# Altium schematic symbol library Toygether_Schlib.SchLib: 47 symbols
Pins are listed as number, name and electrical type; pins without a type are passive.

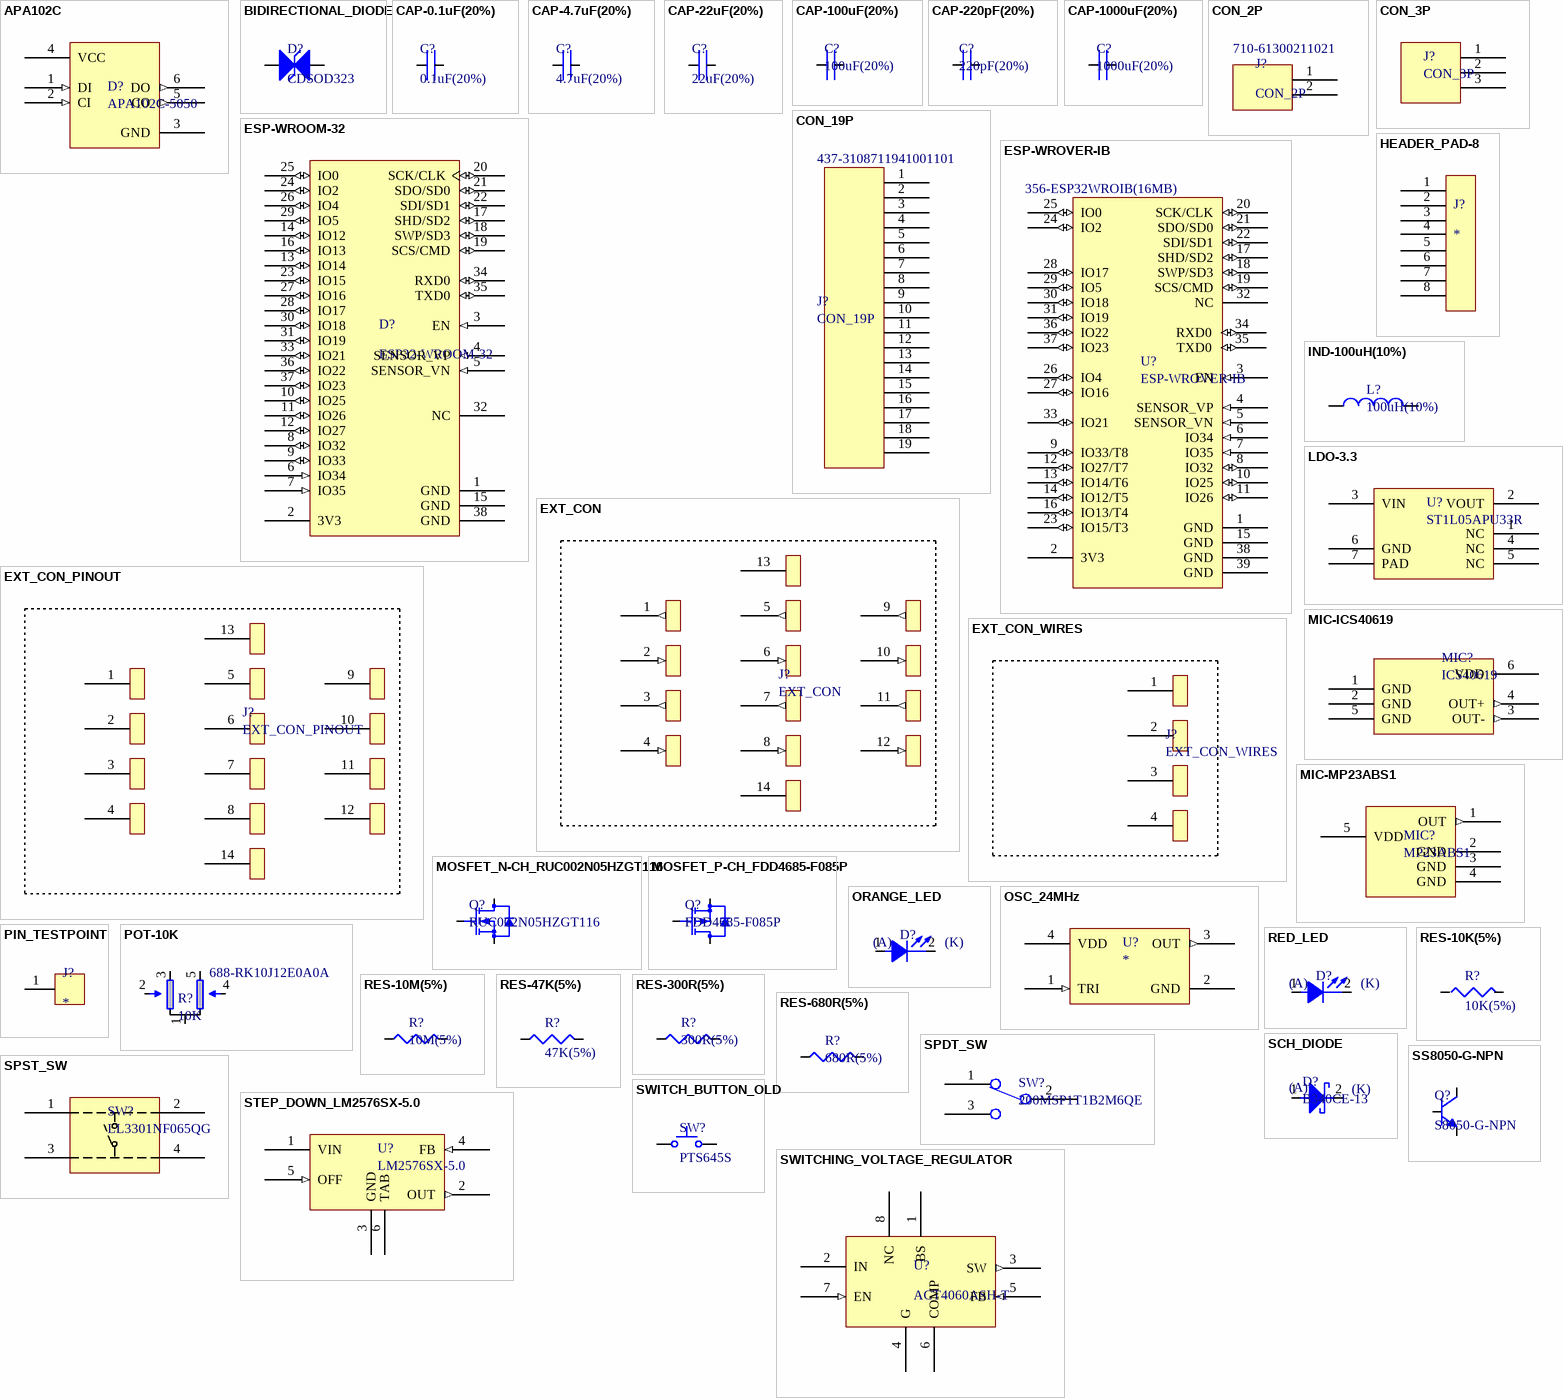
[diagram p0: symbols APA102C to SWITCHING_VOLTAGE_REGULATOR]

## APA102C
designator D?, comment APA102C-5050
Supplier 1: Mouser; Supplier Part Number 1: 474-COM-14863
footprint APA102C-5050
pins: 1 DI (in), 2 CI (in), 3 GND (power), 4 VCC (power), 5 CO (out), 6 DO (out)

## BIDIRECTIONAL_DIODE
designator D?, comment CDSOD323
CDSOD323-T05LC - ESD Suppressors / TVS Diodes Bidirectional Ultra Low Cap; Supplier 1: Mouser; Supplier Part Number 1: 652-CDSOD323-T05LC
footprint SOD-323-SCHOTTKY_DIODE-30V/0.5A (Molded Diode, 2-Leads, Body 2,50x1,30mm, IPC Medium Density)
pins: 1 C, 2 C

## CAP-0.1uF(20%)
designator C?, comment 0.1uF(20%)
C1608X8R1E104M080AA; Supplier 1: Mouser; Supplier Part Number 1: 810-C1608X8R1E104M0A
footprint CAPC0603 (Chip Capacitor, 2-Leads, Body 1,60x0,80mm, IPC Medium Density)
pins: 1, 2

## CAP-4.7uF(20%)
designator C?, comment 4.7uF(20%)
C1608JB1V475M080AC; Supplier 1: Mouser; Supplier Part Number 1: 810-C1608JB1V475M08C
footprint CAPC0603 (Chip Capacitor, 2-Leads, Body 1,60x0,80mm, IPC Medium Density)
pins: 1, 2

## CAP-22uF(20%)
designator C?, comment 22uF(20%)
F380J226MMAAH1; Supplier 1: Mouser; Supplier Part Number 1: 581-F380J226MMAAH1
footprint CAPC0603 (Chip Capacitor, 2-Leads, Body 1,60x0,80mm, IPC Medium Density)
pins: 1, 2

## CAP-100uF(20%)
designator C?, comment 100uF(20%)
GRM31CR61A107ME05L; Supplier 1: Mouser; Supplier Part Number 1: 581-TPSF107M016R0200
footprint CAPC2312 (Chip Capacitor, 2-Leads, Body 6.00x3.25mm, IPC Medium Density)
pins: 1, 2

## CAP-220pF(20%)
designator C?, comment 220pF(20%)
C1608CH2A221J080AA; Supplier 1: Mouser; Supplier Part Number 1: 810-C1608CH2A221J08A
footprint CAPC0603 (Chip Capacitor, 2-Leads, Body 1,60x0,80mm, IPC Medium Density)
pins: 1, 2

## CAP-1000uF(20%)
designator C?, comment 1000uF(20%)
F720J108MMC; Supplier 1: Mouser; Supplier Part Number 1: 647-F720J108MMC
footprint CAPC2824 (Chip Capacitor, 2-Leads, Body 7.20x6.00mm, IPC Medium Density)
pins: 1, 2

## CON_2P
designator J?  Supplier Part Number 1: 710-61300211021
2 Positions Header, Breakaway Connector 0.100" (2.54mm) Through Hole Tin; Supplier 1: Mouser
footprint CON_2P
pins: 1, 2

## CON_3P
designator J?
3 Positions Header, Breakaway Connector 0.100" (2.54mm) Through Hole Tin
footprint CON_3P
pins: 1, 2, 3

## CON_19P
designator J?  Supplier Part Number 1: 437-3108711941001101
19 Positions Header, Breakaway Connector 0.100" (2.54mm) Through Hole Tin; Supplier 1: Mouser
footprint CON_19P
pins: 1, 2 1, 3 1, 4 1, 5 1, 6 1, 7 1, 8 1, 9 1, 10 1, 11 1, 12 1, 13 1, 14 1, 15 1, 16 1, 17 1, 18 1, 19 1

## ESP-WROOM-32
designator D?, comment ESP32-WROOM-32
Supplier 1: Mouser; Supplier Part Number 1: 356-ESP-WROOM-32
footprint OLMX-ESP-WROOM-32 (SMD, 38-Leads, Body 18x25.5mm, Pitch 1.27mm)
pins: 1 GND (power) "Ground", 2 3V3 (power) "Power supply.", 3 EN (in) "Chip-enable signal. Active high.", 4 SENSOR_VP (in) "GPIO36, SENSOR_VP, ADC_H, ADC1_CH0, RTC_GPIO0", 5 SENSOR_VN (in) "GPIO39, SENSOR_VN, ADC1_CH3, ADC_H, RTC_GPIO3", 6 IO34 (in) "GPIO34, ADC1_CH6, RTC_GPIO4", 7 IO35 (in) "GPIO35, ADC1_CH7, RTC_GPIO5", 8 IO32 (io) "GPIO32, XTAL_32K_P (32.768 kHz crystal oscillator input), ADC1_CH4, TOUCH9, RTC_GPIO9", 9 IO33 (io) "GPIO33, XTAL_32K_N (32.768 kHz crystal oscillator output), ADC1_CH5, TOUCH8, RTC_GPIO8", 10 IO25 (io) "GPIO25, DAC_1, ADC2_CH8, RTC_GPIO6, EMAC_RXD0", 11 IO26 (io) "GPIO26, DAC_2, ADC2_CH9, RTC_GPIO7, EMAC_RXD1", 12 IO27 (io) "GPIO27, ADC2_CH7, TOUCH7, RTC_GPIO17, EMAC_RX_DV", 13 IO14 (io) "GPIO14, ADC2_CH6, TOUCH6, RTC_GPIO16, MTMS, HSPICLK, HS2_CLK, SD_CLK, EMAC_TXD2", 14 IO12 (io) "GPIO12, ADC2_CH5, TOUCH5, RTC_GPIO15, MTDI, HSPIQ, HS2_DATA2, SD_DATA2, EMAC_TXD3", 15 GND (power) "Ground", 16 IO13 (io) "GPIO13, ADC2_CH4, TOUCH4, RTC_GPIO14, MTCK, HSPID, HS2_DATA3, SD_DATA3, EMAC_RX_ER", 17 SHD/SD2 (io) "GPIO9, SD_DATA2, SPIHD, HS1_DATA2, U1RXD", 18 SWP/SD3 (io) "GPIO10, SD_DATA3, SPIWP, HS1_DATA3, U1TXD", 19 SCS/CMD (io) "GPIO11, SD_CMD, SPICS0, HS1_CMD, U1RTS", 20 SCK/CLK (io) "GPIO6, SD_CLK, SPICLK, HS1_CLK, U1CTS", 21 SDO/SD0 (io) "GPIO7, SD_DATA0, SPIQ, HS1_DATA0, U2RTS", 22 SDI/SD1 (io) "GPIO8, SD_DATA1, SPID, HS1_DATA1, U2CTS", 23 IO15 (io) "GPIO15, ADC2_CH3, TOUCH3, MTDO, HSPICS0, RTC_GPIO13, HS2_CMD, SD_CMD, EMAC_RXD3", 24 IO2 (io) "GPIO2, ADC2_CH2, TOUCH2, RTC_GPIO12, HSPIWP, HS2_DATA0, SD_DATA0", 25 IO0 (io) "GPIO0, ADC2_CH1, TOUCH1, RTC_GPIO11, CLK_OUT1, EMAC_TX_CLK", 26 IO4 (io) "GPIO4, ADC2_CH0, TOUCH0, RTC_GPIO10, HSPIHD, HS2_DATA1, SD_DATA1, EMAC_TX_ER", 27 IO16 (io) "GPIO16, HS1_DATA4, U2RXD, EMAC_CLK_OUT", 28 IO17 (io) "GPIO17, HS1_DATA5, U2TXD, EMAC_CLK_OUT_180", 29 IO5 (io) "GPIO5, VSPICS0, HS1_DATA6, EMAC_RX_CLK", 30 IO18 (io) "GPIO18, VSPICLK, HS1_DATA7", 31 IO19 (io) "GPIO19, VSPIQ, U0CTS, EMAC_TXD0", 32 NC "Not connected", 33 IO21 (io) "GPIO21, VSPIHD, EMAC_TX_EN", 34 RXD0 (io) "GPIO3, U0RXD, CLK_OUT2", 35 TXD0 (io) "GPIO1, U0TXD, CLK_OUT3, EMAC_RXD2", 36 IO22 (io) "GPIO22, VSPIWP, U0RTS, EMAC_TXD1", 37 IO23 (io) "GPIO23, VSPID, HS1_STROBE", 38 GND (power) "Ground"

## ESP-WROVER-IB
designator U?  Supplier Part Number 1: 356-ESP32WROIB(16MB)
Supplier 1: Mouser
footprint ESP32-WROVER-I (SMD, 38-Leads, Body 18x25.5mm, Pitch 1.27mm)
pins: 1 GND (power) "Ground", 2 3V3 (power) "Power supply.", 3 EN (in) "Chip-enable signal. Active high.", 4 SENSOR_VP (in) "GPIO36, SENSOR_VP, ADC_H, ADC1_CH0, RTC_GPIO0", 5 SENSOR_VN (in) "GPIO39, SENSOR_VN, ADC1_CH3, ADC_H, RTC_GPIO3", 6 IO34 (in) "GPIO34, ADC1_CH6, RTC_GPIO4", 7 IO35 (in) "GPIO35, ADC1_CH7, RTC_GPIO5", 8 IO32 (io) "GPIO32, XTAL_32K_P (32.768 kHz crystal oscillator input), ADC1_CH4, TOUCH9, RTC_GPIO9", 9 IO33/T8 (io) "GPIO33, XTAL_32K_N (32.768 kHz crystal oscillator output), ADC1_CH5, TOUCH8, RTC_GPIO8", 10 IO25 (io) "GPIO25, DAC_1, ADC2_CH8, RTC_GPIO6, EMAC_RXD0", 11 IO26 (io) "GPIO26, DAC_2, ADC2_CH9, RTC_GPIO7, EMAC_RXD1", 12 IO27/T7 (io) "GPIO27, ADC2_CH7, TOUCH7, RTC_GPIO17, EMAC_RX_DV", 13 IO14/T6 (io) "GPIO14, ADC2_CH6, TOUCH6, RTC_GPIO16, MTMS, HSPICLK, HS2_CLK, SD_CLK, EMAC_TXD2", 14 IO12/T5 (io) "GPIO12, ADC2_CH5, TOUCH5, RTC_GPIO15, MTDI, HSPIQ, HS2_DATA2, SD_DATA2, EMAC_TXD3", 15 GND (power) "Ground", 16 IO13/T4 (io) "GPIO13, ADC2_CH4, TOUCH4, RTC_GPIO14, MTCK, HSPID, HS2_DATA3, SD_DATA3, EMAC_RX_ER", 17 SHD/SD2 (io) "GPIO9, SD_DATA2, SPIHD, HS1_DATA2, U1RXD", 18 SWP/SD3 (io) "GPIO10, SD_DATA3, SPIWP, HS1_DATA3, U1TXD", 19 SCS/CMD (io) "GPIO11, SD_CMD, SPICS0, HS1_CMD, U1RTS", 20 SCK/CLK (io) "GPIO6, SD_CLK, SPICLK, HS1_CLK, U1CTS", 21 SDO/SD0 (io) "GPIO7, SD_DATA0, SPIQ, HS1_DATA0, U2RTS", 22 SDI/SD1 (io) "GPIO8, SD_DATA1, SPID, HS1_DATA1, U2CTS", 23 IO15/T3 (io) "GPIO15, ADC2_CH3, TOUCH3, MTDO, HSPICS0, RTC_GPIO13, HS2_CMD, SD_CMD, EMAC_RXD3", 24 IO2 (io) "GPIO2, ADC2_CH2, TOUCH2, RTC_GPIO12, HSPIWP, HS2_DATA0, SD_DATA0", 25 IO0 (io) "GPIO0, ADC2_CH1, TOUCH1, RTC_GPIO11, CLK_OUT1, EMAC_TX_CLK", 26 IO4 (io) "GPIO4, ADC2_CH0, TOUCH0, RTC_GPIO10, HSPIHD, HS2_DATA1, SD_DATA1, EMAC_TX_ER", 27 IO16 (io) "GPIO16, HS1_DATA4, U2RXD, EMAC_CLK_OUT", 28 IO17 (io) "GPIO17, HS1_DATA5, U2TXD, EMAC_CLK_OUT_180", 29 IO5 (io) "GPIO5, VSPICS0, HS1_DATA6, EMAC_RX_CLK", 30 IO18 (io) "GPIO18, VSPICLK, HS1_DATA7", 31 IO19 (io) "GPIO19, VSPIQ, U0CTS, EMAC_TXD0", 32 NC "Not connected", 33 IO21 (io) "GPIO21, VSPIHD, EMAC_TX_EN", 34 RXD0 (io) "GPIO3, U0RXD, CLK_OUT2", 35 TXD0 (io) "GPIO1, U0TXD, CLK_OUT3, EMAC_RXD2", 36 IO22 (io) "GPIO22, VSPIWP, U0RTS, EMAC_TXD1", 37 IO23 (io) "GPIO23, VSPID, HS1_STROBE", 38 GND (power) "Ground", 39 GND (power) "Ground"

## EXT_CON
designator J?
External connector to the LEDs and capacitive touch sensors (on the plush toy)
footprint EXT_CON_14P
pins: 1 (out), 2 (in), 3 (out), 4 (in), 5 (out), 6 (in), 7 (out), 8 (in), 9 (out), 10 (in), 11 (out), 12 (in), 13 (power), 14 (power)

## EXT_CON_PINOUT
designator J?
Pinout for the LEDs and capacitive touch sensors (on the plush toy)
footprint EXT_CON_PINOUT_14P
pins: 1, 2, 3, 4, 5, 6, 7, 8, 9, 10, 11, 12, 13, 14

## EXT_CON_WIRES
designator J?
Pads between pinout board and wires of the plush toy
footprint EXT_CON_WIRES_4P
pins: 1, 2, 3, 4

## HEADER_PAD-8
designator J?
footprint HEADER-PAD-8
pins: 1 9, 2, 3, 4, 5, 6, 7, 8

## IND-100uH(10%)
designator L?, comment 100uH(10%)
SDR1307A-101K; Supplier 1: Mouser; Supplier Part Number 1: 652-SDR1307A-101K
footprint IND1307-100uH (Precision Wire Wound Inductor, 2-Leads, Body 13.00x13.00mm, IPC Medium Density)
pins: 1, 2

## LDO-3.3
designator U?, comment ST1L05APU33R
Low drop linear voltage regulator; Supplier 1: Mouser; Supplier Part Number 1: 511-ST1L05APU33R
footprint LDO-ST1L05 (SON, 6-Leads, Body 3x3mm, Pitch 0.95mm, Thermal Pad 2.4x1.65mm, IPC Low Density)
pins: 1 NC, 2 VOUT (power), 3 VIN (power), 4 NC, 5 NC, 6 GND (power), 7 PAD (power)

## MIC-ICS40619
designator MIC?, comment ICS40619
Differential analog top-port microphone; Supplier 1: Mouser; Supplier Part Number 1: 410-ICS-40619
footprint MIC-ICS40619 (SOTFL, 6-Leads, Body 3.50x3.14mm, Pitch 1.28mm, IPC Medium Density)
pins: 1 GND (power) "Ground", 2 GND (power) "Ground", 3 OUT- (out) "Analog Output Signal−", 4 OUT+ (out) "Analog Output Signal+", 5 GND (power) "Ground", 6 VDD "Power Supply"

## MIC-MP23ABS1
designator MIC?, comment MP23ABS1
Single-ended analog bottom-port microphone
footprint MIC_MP23ABS1 (RHLGA metal cap 5-lead MEMS audio sensor)
pins: 1 OUT (out), 2 GND (power), 3 GND (power), 4 GND (power), 5 VDD (power)

## MOSFET_N-CH_RUC002N05HZGT116
designator Q?, comment RUC002N05HZGT116
RUC002N05HZGT116 (N-CH/50V/2.2R/200mA); Supplier 1: Mouser; Supplier Part Number 1: 755-RUC002N05HZGT116
footprint MOS-N_RUC002N05 (SOT23, 3-Leads, Body 2.90x2.40mm, Pitch 0.95mm, IPC Medium Density)
pins: 1 "Gate", 2 "Source", 3 "Drain"

## MOSFET_P-CH_FDD4685-F085P
designator Q?, comment FDD4685-F085P
FDD4685-F085P(P-CH/40V/35mR/32A); Supplier 1: Mouser; Supplier Part Number 1: 512-FDD4685_F085P
footprint MOS-P_FDD4685 (DPAK, 3-Leads, Body 6.75x6.22mm, Pitch 2.29mm, IPC High Density)
pins: 1 "Gate", 2 "Source", 3 "Drain"

## ORANGE_LED
designator D?, comment SML-D12D1W  (value not drawn)
SML-D12D1WT86_ORANGE-LED; Supplier 1: Mouser; Supplier Part Number 1: 755-SML-D12D1WT86
footprint SML-D12U1WT86 (Molded Diode, 2-Leads, Body 1,60x0,80mm, IPC Medium Density)
pins: 1, 2
text: (A); (K)

## OSC_24MHz
designator U?
Crystal Oscillator for CODEC; Supplier 1: Mouser; Supplier Part Number 1: 520-3225MV-240-BNT
footprint OSC_24MHz (ECS-3225MV SMD Multi Volt Crystal Oscillator)
pins: 1 TRI (in) "Tri-state pin", 2 GND (power), 3 OUT (out), 4 VDD (power)

## PIN_TESTPOINT
designator J?
1 Position Header, Breakaway Connector 0.100" (2.54mm) Through Hole Tin
footprint PIN_TESTPOINT
pins: 1 Testpoint

## POT-10K
designator R?, comment 10K  Supplier Part Number 1: 688-RK10J12E0A0A
RK10J12E0A0A; Supplier 1: Mouser
footprint POT-RK10J12E0A0A
pins: 1, 2, 3, 4, 5

## RED_LED
designator D?, comment SML-D12U1WT86  (value not drawn)
SML-D12U1WT86-2.2V-20mA; Supplier 1: Mouser; Supplier Part Number 1: 755-SML-D12U1WT86
footprint SML-D12U1WT86 (Molded Diode, 2-Leads, Body 1,60x0,80mm, IPC Medium Density)
pins: 1, 2
text: (A); (K)

## RES-10K(5%)
designator R?, comment 10K(5%)
RC0603JR-0710KL; Supplier 1: Mouser; Supplier Part Number 1: 603-RC0603JR-0710KL
footprint RC0603 (Chip Resistor, 2-Leads, Body 1.60x0.80mm, IPC Medium Density)
pins: 1, 2

## RES-10M(5%)
designator R?, comment 10M(5%)
CRCW060310M0DHEAP; Supplier 1: Mouser; Supplier Part Number 1: 71-CRCW060310M0DHEAP
footprint RC0603 (Chip Resistor, 2-Leads, Body 1.60x0.80mm, IPC Medium Density)
pins: 1, 2

## RES-47K(5%)
designator R?, comment 47K(5%)
RC0603JR-0747KL; Supplier 1: Mouser; Supplier Part Number 1: 603-RC0603JR-0747KL
footprint RC0603 (Chip Resistor, 2-Leads, Body 1.60x0.80mm, IPC Medium Density)
pins: 1, 2

## RES-300R(5%)
designator R?, comment 300R(5%)
RC0603JR-07300RL; Supplier 1: Mouser; Supplier Part Number 1: 603-RC0603JR-07300RL
footprint RC0603 (Chip Resistor, 2-Leads, Body 1.60x0.80mm, IPC Medium Density)
pins: 1, 2

## RES-680R(5%)
designator R?, comment 680R(5%)
RC0603JR-07680RL; Supplier 1: Mouser; Supplier Part Number 1: 603-RC0603JR-07680RL
footprint RC0603 (Chip Resistor, 2-Leads, Body 1.60x0.80mm, IPC Medium Density)
pins: 1, 2

## SCH_DIODE
designator D?, comment B340CE-13
Supplier 1: Mouser; Supplier Part Number 1: 621-B340CE-13
footprint SCH_DIODE-B3xxCE (Molded Diode, 2-Leads, Body 6.86x5.91mm, IPC Medium Density)
pins: 1 A, 2 K
text: (A); (K)

## SPDT_SW
designator SW?, comment 200MSP1T1B2M6QE
Supplier 1: Mouser; Supplier Part Number 1: 612-200MSP1T1B2M6QE
footprint SPDT- 200MSP1T1B2M6QE
pins: 1, 2, 3

## SPST_SW
designator SW?, comment LL3301NF065QG
Supplier 1: Mouser; Supplier Part Number 1: 612-LL3301NF065QG
footprint PUSH_BUTTON-LL3301NF065QG
pins: 1, 2, 3, 4

## SS8050-G-NPN
designator Q?, comment S8050-G-NPN
750-SS8050-G-BJT NPN SOT-23-3 TRANSISTOR 1.5A 40V; Supplier 1: Mouser; Supplier Part Number 1: 750-SS8050-G
footprint SOT23 (SOT23, 3-Leads, Body 2,90x2,40mm, Pitch 0,95mm, IPC Medium Density)
pins: 1 BASE, 2 EMITTER, 3 COLLECTOR

## STEP_DOWN_LM2576SX-5.0
designator U?, comment LM2576SX-5.0
LM2576SX-5.0/NOPB step down voltage regulator; Supplier 1: Mouser; Supplier Part Number 1: 926-LM2576SX-5.0NOPB
footprint LM2576SX-STEP_DOWN-5.0
pins: 1 VIN (power) "Supply input pin to collector pin of high-side transistor.", 2 OUT (out) "Emitter pin of the power transistor. This is a switching node. Attached this pin to an inductor and the cathode of the external diode.", 3 GND (power) "Ground pin.", 4 FB (in) "Feedback sense input pin.", 5 OFF (in) "Enable input to the voltage regulator. High = OFF and low = ON.", 6 TAB (power) "Connected to GND. Attached to heatsink for thermal relief for TO-220 package or put a copper plane connected to this pin as a thermal relief for DDPAK package."

## SWITCH_BUTTON_OLD
designator SW?, comment PTS645S
PTS645SL432LFS; Supplier 1: Avnet; Supplier Part Number 1: PTS645SL432LFS
footprint CKCP-PTS645S_V (THD, 4-Leads, Body 6x6mm, Pitch 4.5mm)
pins: 1, 2

## SWITCHING_VOLTAGE_REGULATOR
designator U?, comment ACT4060ASH-T
Supplier 1: Mouser; Supplier Part Number 1: 107-ACT4060ASH-T
footprint SWITCHING_VOLTAGE_REGULATOR
pins: 1 BS "Bootstrap. This pin acts as the positive rail for the high-side switch’s gate driver. Connect a 10nF capacitor between BS and SW.", 2 IN (power) "Input Supply. Bypass this pin to G with a low ESR capacitor.", 3 SW (out) "Switch Output. Connect this pin to the switching end of the inductor.", 4 G (power) "Ground", 5 FB (in) "Feedback Input. The voltage at this pin is regulated to 1.293V. Connect to the resistor divider between output and ground to set output voltage.", 6 COMP "Compensation Pin", 7 EN (in) "Enable Input. When higher than 1.3V, this pin turns the IC on. When lower than 0.7V, this pin turns the IC off. Output voltage is discharged when the IC is off. When left unconnected, EN is pulled up to 4.5V with a 2µA pull-up current.", 8 NC

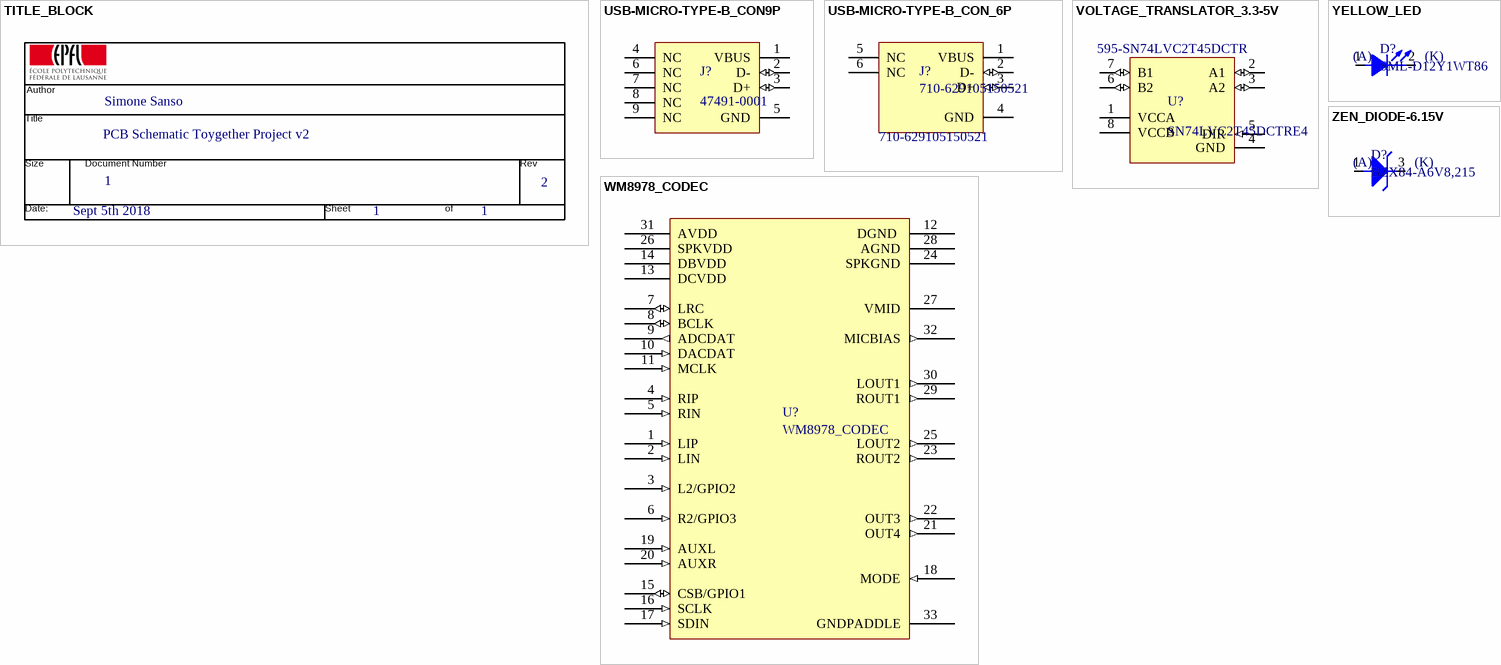
[diagram p1: symbols TITLE_BLOCK to ZEN_DIODE-6.15V]

## TITLE_BLOCK
designator T  (value not drawn)
text: Author; Simone Sanso; Title; PCB Schematic Toygether Project v2; Size; Document Number; Rev; 1; 2; Date:; Sheet; of; Sept 5th 2018

## USB-MICRO-TYPE-B_CON9P
designator J?, comment 47491-0001
USB Connectors MICRO USB B RECPT MIDDLE MNT ASSY
footprint USB-MICRO-B_V (USB, MICRO B, Body 7.491x4.695 mm, Pitch 0.65 mm)
pins: 1 VBUS (power), 2 D- (io), 3 D+ (io), 4 NC, 5 GND (power), 6 NC, 7 NC, 8 NC, 9 NC

## USB-MICRO-TYPE-B_CON_6P
designator J?, comment 710-629105150521
USB Micro SMT Type B Horizontal; Supplier 1: Mouser; Supplier Part Number 1: 710-629105150521
footprint USB-MICRO-TYPE-B-FEM
pins: 1 VBUS (power), 2 D- (io), 3 D+ (io), 4 GND (power), 5 NC, 6 NC

## VOLTAGE_TRANSLATOR_3.3-5V
designator U?, comment SN74LVC2T45DCTRE4  Supplier Part Number 1: 595-SN74LVC2T45DCTR
Translation - Voltage Levels DUAL-BIT DUAL SUPPLY TRANSCEIVER; Supplier 1: Mouser
footprint VOLTAGE_TRANSLATOR_3.3-5V (TSSOP, 8-Leads, Body 2,00x2,30mm, Pitch 0,50mm, IPC Medium Density)
pins: 1 VCCA (power), 2 A1 (io), 3 A2 (io), 4 GND (power), 5 DIR (in), 6 B2 (io), 7 B1 (io), 8 VCCB (power)

## WM8978_CODEC
designator U?
Stereo CODEC WM8978 with Speaker Driver; Supplier 1: Mouser; Supplier Part Number 1: 238-WM8978CGEFL/V
footprint WM8978_CODEC (QFN, 32-Leads, Body 5.00x5.00mm, Pitch 0.50mm, Thermal Pad 3.30x3.30mm, IPC Medium Density)
pins: 1 LIP (in) "Left Mic Pre-amp positive input", 2 LIN (in) "Left Mic Pre-amp negative input", 3 L2/GPIO2 (in) "Left channel line input/secondary mic pre-amp positive input/GPIO2 pin", 4 RIP (in) "Right Mic Pre-amp positive input", 5 RIN (in) "Right Mic Pre-amp negative input", 6 R2/GPIO3  (in) "Right channel line input/secondary mic pre-amp positive input/GPIO3 pin", 7 LRC (io) "DAC and ADC Sample Rate Clock", 8 BCLK  (io) "Digital Audio Port Clock", 9 ADCDAT (out) "ADC Digital Audio Data Output", 10 DACDAT  (in) "DAC Digital Audio Data Input", 11 MCLK (in) "Master Clock Input", 12 DGND  (power) "Digital ground", 13 DCVDD  (power) "Digital core logic supply", 14 DBVDD (power) "Digital buffer (I/O) supply", 15 CSB/GPIO1 (io) "3-Wire Control Interface Chip Select / GPIO1 pin", 16 SCLK  (in) "3-Wire Control Interface Clock Input / 2-Wire Control Interface Clock", 17 SDIN  (in) "3-Wire Control Interface Data Input / 2-Wire Control Interface Data Input", 18 MODE (in) "Control Interface Selection", 19 AUXL (in) "Left Auxillary input", 20 AUXR (in) "Right Auxillary input", 21 OUT4 (out) "Buffered midrail Headphone pseudo-ground, or Right line output or MONO", 22 OUT3 (out) "Buffered midrail Headphone pseudo-ground, or Left line output", 23 ROUT2 (out) "Second right output, or BTL speaker driver positive output", 24 SPKGND (power) "Speaker ground (feeds speaker amp and OUT3/OUT4)", 25 LOUT2 (out) "Second left output, or BTL speaker driver negative output", 26 SPKVDD (power) "Speaker supply (feed speaker amp only)", 27 VMID "Decoupling for ADC and DAC reference voltage", 28 AGND (power) "Analogue ground (feeds ADC and DAC)", 29 ROUT1 (out) "Headphone or Line Output Right", 30 LOUT1 (out) "Headphone or Line Output Left", 31 AVDD (power) "Analogue supply (feeds ADC and DAC)", 32 MICBIAS (out) "Microphone Bias", 33 GNDPADDLE (power) "Analogue ground (feeds ADC and DAC)"

## YELLOW_LED
designator D?, comment SML-D12Y1WT86
SML-D12Y1WT86_YELLOW-LED; Supplier 1: Mouser; Supplier Part Number 1: 755-SML-D12Y1WT86
footprint SML-D12U1WT86 (Molded Diode, 2-Leads, Body 1,60x0,80mm, IPC Medium Density)
pins: 1, 2
text: (A); (K)

## ZEN_DIODE-6.15V
designator D?, comment BZX84-A6V8,215
Supplier 1: Mouser; Supplier Part Number 1: 771-BZX84-A6V8,215
footprint ZEN_DIODE-SOT23 (SOT23, 3-Leads, Body 3x1.4mm, Pitch 0.95mm)
pins: 1 A, 3 K
text: (A); (K)